# EAGLE library part TAC5112IRGER (library TAC5112IRGER)
Interface - CODECs Low-power stereo audio codec with 105dB dynamic range ADC and 114dB dynamic range DAC, -40C ~ 125C, 1.2V/3.3V Source: Datasheet <https://www.ti.com/lit/ds/symlink/tac5112.pdf?ts=1748263003675&ref_url=https%3A%2F%2Fwww.ti.com%2Fde-de%2Faudio-ic%2Fconverters%2Fproducts.html>
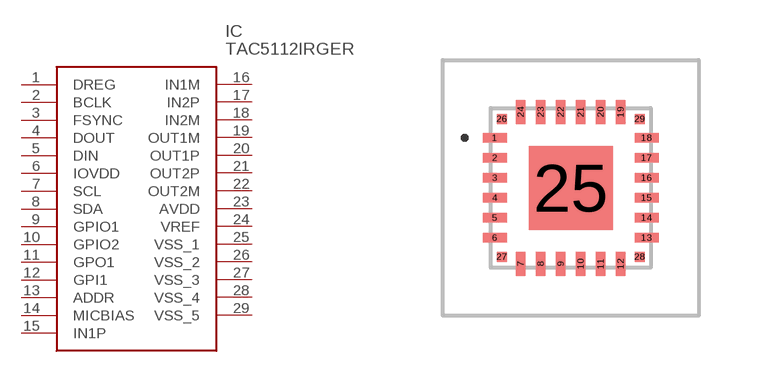
[diagram p0: symbol with the pads of TAC5112IRGER; footprint TAC5112IRGER]

Designator prefix IC

## TAC5112IRGER (Arrow_Part_Number: TAC5112IRGER; Arrow_Price-Stock: https://www.arrow.com/en/products/tac5112irger/texas-instruments.html?utm_currency=USD&region=nac; Description: Interface - CODECs Low-power stereo audio codec with 105dB dynamic range ADC and 114dB dynamic range DAC, -40C ~ 125C, 1.2V/3.3V; Height: 1mm; Manufacturer_Name: Texas Instruments; Manufacturer_Part_Number: TAC5112IRGER)  [TAC5112IRGER]
1  DREG
2  BCLK
3  FSYNC
4  DOUT
5  DIN
6  IOVDD
7  SCL
8  SDA
9  GPIO1
10  GPIO2
11  GPO1
12  GPI1
13  ADDR
14  MICBIAS
15  IN1P
16  IN1M
17  IN2P
18  IN2M
19  OUT1M
20  OUT1P
21  OUT2P
22  OUT2M
23  AVDD
24  VREF
25  VSS_1
26  VSS_2
27  VSS_3
28  VSS_4
29  VSS_5

## Footprint TAC5112IRGER (pad centres in mm)
RGE0024R_2025-11
smd 0.6 x 0.24: 1 -1.9,1.25; 2 -1.9,0.75; 3 -1.9,0.25; 4 -1.9,-0.25; 5 -1.9,-0.75; 6 -1.9,-1.25; 13 1.9,-1.25; 14 1.9,-0.75; 15 1.9,-0.25; 16 1.9,0.25; 17 1.9,0.75; 18 1.9,1.25
smd 0.24 x 0.6: 7 -1.25,-1.9; 8 -0.75,-1.9; 9 -0.25,-1.9; 10 0.25,-1.9; 11 0.75,-1.9; 12 1.25,-1.9; 19 1.25,1.9; 20 0.75,1.9; 21 0.25,1.9; 22 -0.25,1.9; 23 -0.75,1.9; 24 -1.25,1.9
smd 2.1 x 2.1: 25 0,0
smd 0.25 x 0.25: 26 -1.725,1.725; 27 -1.725,-1.725; 28 1.725,-1.725; 29 1.725,1.725